# EAGLE library part SI9986 (library Railstars)
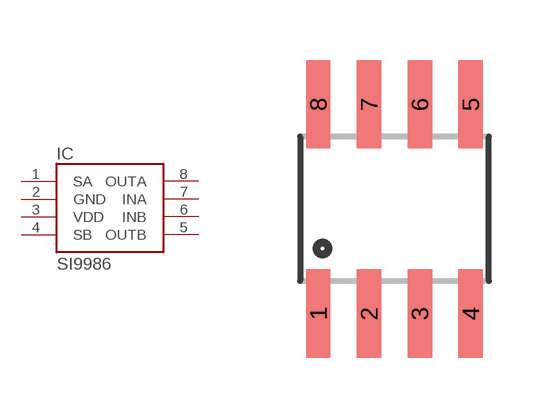
[diagram p0: symbol with the pads of SOIC-8; footprint SOIC-8]

Designator prefix IC

## SI9986SOIC-8  [SOIC-8]
1  SA
2  GND
3  VDD
4  SB
5  OUTB
6  INB
7  INA
8  OUTA

## Footprint SOIC-8 (pad centres in mm)
smd 0.61 x 2.21: 1 -1.905,-2.616; 2 -0.635,-2.616; 3 0.635,-2.616; 4 1.905,-2.616; 5 1.905,2.616; 6 0.635,2.616; 7 -0.635,2.616; 8 -1.905,2.616